# Altium schematic symbol library 300-021-12.SchLib: 1 symbol
Pins are listed as number, name and electrical type; pins without a type are passive.

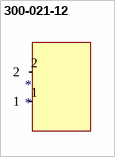
[diagram p0: symbol 300-021-12]

## 300-021-12
designator *
footprint 300-021-12
pins: 1, 2